# Altium schematic symbol library SJ2-35983D-SMT-TR.SchLib: 1 symbol
Pins are listed as number, name and electrical type; pins without a type are passive.

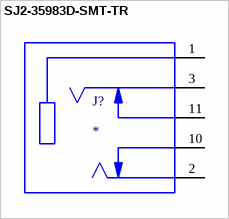
[diagram p0: symbol SJ2-35983D-SMT-TR]

## SJ2-35983D-SMT-TR
designator J?
3 conductor, 3.5 mm, SMT Audio Jack w/ 2 switch; MP: SJ2-35983D-SMT-TR; Package: None; Price: None; Value: *; Availability: Unavailable
footprint CUI_SJ2-35983D-SMT-TR
pins: 1 SLEEVE, 2 TIP, 3 RING1, 10 TIP_SWITCH, 11 RING1_SWITCH